# Altium integrated library Lattice ispXPGA.IntLib: 128 symbols (part 31 of 40)
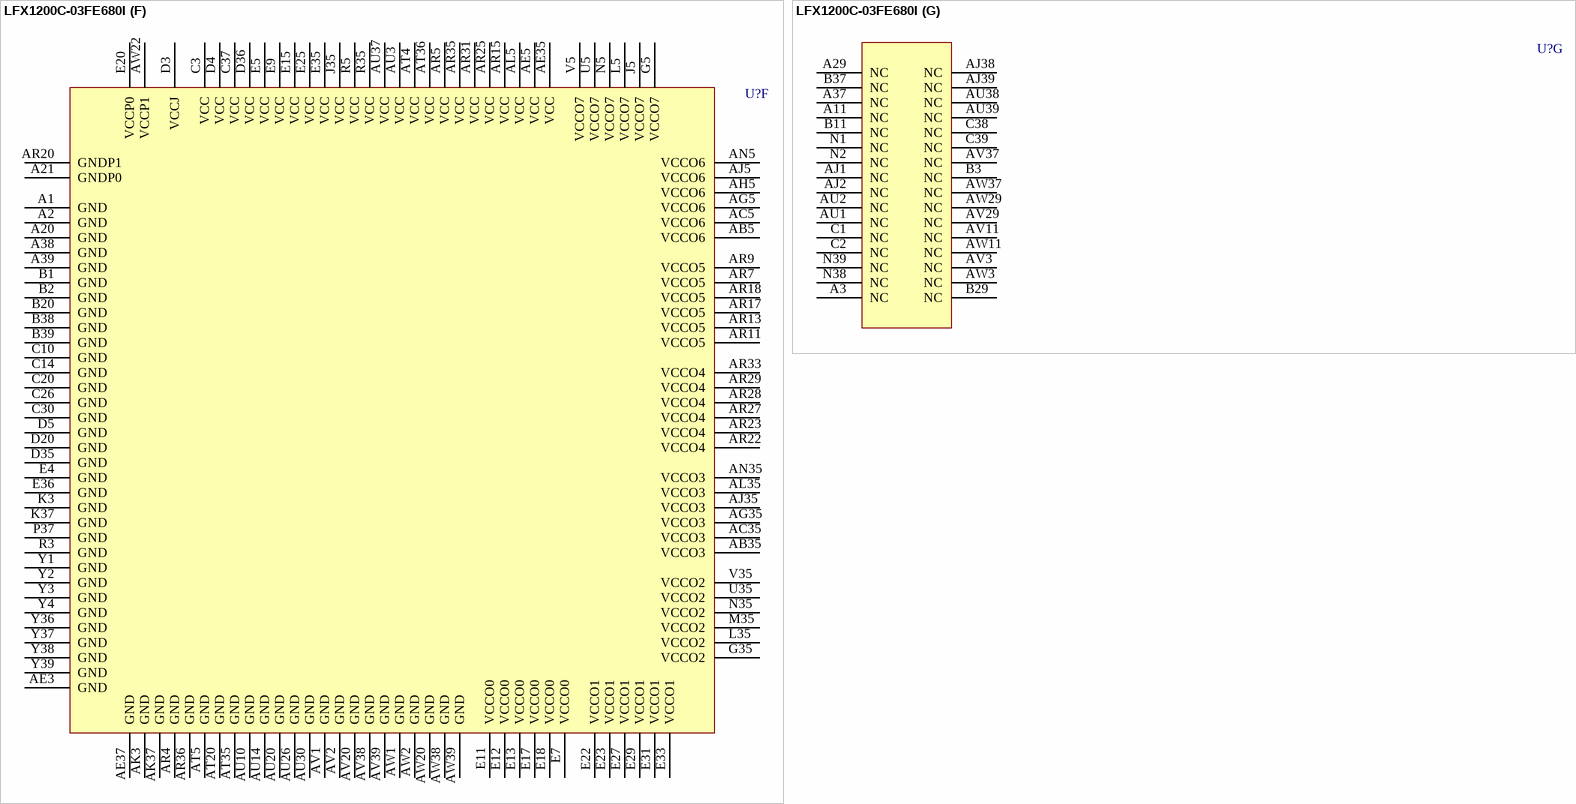
[diagram p429: symbol LFX1200C-03FE680I]

## LFX1200C-03FE680I
designator U?
LFX1200 Non-Volatile Infinitely-Reconfigurable: 1.8V FPGA, 496 User I/Os, 680-Ball fpSBGA, Speed Grade 3, Industrial Grade; Note: All GND pins must be electrically connected at the board level.; DoNotConnect: NC pins to any active signals, VCC or GND.; Published: 17-Dec-2003; LatestRevisionDate: 13-Apr-2006; LatestRevisionNote: IPC-7351 Footprint Added.; DatasheetVersion: xpga_07, Sep-2003; PackageVersion: pkg_32, Aug-2005; PackageReference: fpSBGA680; Publisher: Altium Limited; PackageDescription: 680-Ball Fine Pitch Super Ball Grid Array (fpSBGA680); ComponentLink1Description: Manufacturer Link; ComponentLink1URL: http://www.latticesemi.com/products/fpga/xpga/index.cfm; ComponentLink2Description: Datasheet; ComponentLink2URL: http://www.latticesemi.com/account/_download.cfm?AMID=5010; ComponentLink3Description: Lattice Login; ComponentLink3URL: http://www.latticesemi.com/account/login.cfm
footprint fpSBGA680 (BGA, 680-Leads, Body 40x40mm, Pitch 1mm)
3D model LFX1200-fpSBGA680 (680-Ball Fine Pitch Super Ball Grid Array (fpSBGA680))
part A pins: A4 BK0_IO4/2P (io), A5 BK0_IO9/4N (io), A6 BK0_IO8/4P (io), A7 BK0_IO13/6N (io), A8 BK0_IO20/10P (io), A9 BK0_IO21/10N (io), A10 BK0_IO28/14P (io), A12 BK0_IO32/16P (io), A13 BK0_IO33/16N (io), A14 BK0_IO41/20N (io), A15 BK0_IO44/22P (io), A16 BK0_IO48/24P (io), A17 BK0_IO56/28P (io), A18 BK0_IO54, PLL_RST0/27P (io), A19 BK0_IO58, PLL_FBK0/29P (io), A22 BK1_IO8/35P (io), A23 BK1_IO10/36P (io), A24 BK1_IO13, PLL_RST3/37N (io), A25 BK1_IO14/38P (io), A26 BK1_IO17/39N (io), A27 BK1_IO23/42N (io), A28 BK1_IO24/43P (io), A30 BK1_IO29/45N (io), A31 BK1_IO32/47P (io), A32 BK1_IO40/51P (io), A33 BK1_IO45/53N (io), A34 BK1_IO48/55P (io), A35 BK1_IO49, VREF1/55N (io), A36 BK1_IO56/59P (io), B4 BK0_IO1/0N (io), B5 BK0_IO11, HSI0A_SINN/5N (io), B6 BK0_IO10, HSI0A_SINP/5P (io), B7 BK0_IO12, VREF0/6P (io), B8 BK0_IO23, HSI1A_SOUTN/11N (io), B9 BK0_IO24/12P (io), B10 BK0_IO25/12N (io), B12 BK0_IO35, HSI1B_SINN/17N (io), B13 BK0_IO34, HSI1B_SINP/17P (io), B14 BK0_IO40/20P (io), B15 BK0_IO46, HSI2B_SOUTP/23P (io), B16 BK0_IO47, HSI2B_SOUTN/23N (io), B17 BK0_IO49/24N (io), B18 BK0_IO61, CLK_OUT1/30N (io), B19 BK0_IO59, PLL_FBK1/29N (io), B22 BK1_IO2, SS_CLKOUT0P/32P (io), B23 BK1_IO0, CLK_OUT2/31P (io), B24 BK1_IO6, SS_CLKIN0P/34P (io), B25 BK1_IO11/36N (io), B26 BK1_IO20/41P (io), B27 BK1_IO21/41N (io), B28 BK1_IO28/45P (io), B30 BK1_IO33/47N (io), B31 BK1_IO37/49N (io), B32 BK1_IO44/53P (io), B33 BK1_IO47, HSI4A_SINN/54N (io), B34 BK1_IO54, HSI4B_SINP/58P (io), B35 BK1_IO55, HSI4B_SINN/58N (io), B36 BK1_IO60/61P (io), C4 BK0_IO0/0P (io), C5 BK0_IO6, HSI0A_SOUTP/3P (io), C6 BK0_IO7, HSI0A_SOUTN/3N (io), C7 BK0_IO19, HSI0B_SINN/9N (io), C8 BK0_IO18, HSI0B_SINP/9P (io), C9 BK0_IO22, HSI1A_SOUTP/11P (io), C11 BK0_IO31, HSI1B_SOUTN/15N (io), C12 BK0_IO29/14N (io), C13 BK0_IO38, HSI2A_SOUTP/19P (io), C15 BK0_IO42, HSI2A_SINP/21P (io), C16 BK0_IO45/22N (io), C17 BK0_IO53/26N (io), C18 BK0_IO60, CLK_OUT0/30P (io), C22 BK1_IO3, SS_CLKOUT0N/32N (io), C23 BK1_IO1, CLK_OUT3/31N (io), C24 BK1_IO7, SS_CLKIN0N/34N (io), C25 BK1_IO19/40N (io), C27 BK1_IO26, HSI3A_SOUTP/44P (io), C28 BK1_IO30, HSI3A_SINP/46P (io), C29 BK1_IO36/49P (io), C31 BK1_IO41/51N (io), C32 BK1_IO43, HSI4A_SOUTN/52N (io), C33 BK1_IO46, HSI4A_SINP/54P (io), C34 BK1_IO53/57N (io), C35 BK1_IO58/60P (io), C36 BK1_IO61/61N (io), D6 BK0_IO3/1N (io), D7 BK0_IO15, HSI0B_SOUTN/7N (io), D8 BK0_IO14, HSI0B_SOUTP/7P (io), D9 BK0_IO16/8P (io), D10 BK0_IO27, HSI1A_SINN/13N (io), D11 BK0_IO26, HSI1A_SINP/13P (io), D12 BK0_IO30, HSI1B_SOUTP/15P (io), D13 BK0_IO39, HSI2A_SOUTN/19N (io), D14 BK0_IO37/18N (io), D15 BK0_IO43, HSI2A_SINN/21N (io), D16 BK0_IO50, HSI2B_SINP/25P (io), D17 BK0_IO52/26P (io), D18 BK0_IO55, PLL_RST1/27N (io), D21 BK1_IO4, PLL_FBK2/33P (io), D22 BK1_IO9/35N (io), D23 BK1_IO12, PLL_RST2/37P (io), D24 BK1_IO16/39P (io), D25 BK1_IO18/40P (io), D26 BK1_IO22/42P (io), D27 BK1_IO27, HSI3A_SOUTN/44N (io), D28 BK1_IO31, HSI3A_SINN/46N (io), D29 BK1_IO35, HSI3B_SOUTN/48N (io), D30 BK1_IO38, HSI3B_SINP/50P (io), D31 BK1_IO42, HSI4A_SOUTP/52P (io), D32 BK1_IO50, HSI4B_SOUTP/56P (io), D33 BK1_IO51, HSI4B_SOUTN/56N (io), D34 BK1_IO57/59N (io), E6 BK0_IO2/1P (io), E8 BK0_IO5/2N (io), E10 BK0_IO17/8N (io), E14 BK0_IO36/18P (io), E16 BK0_IO51, HSI2B_SINN/25N (io), E19 BK0_IO57/28N (io), E21 BK1_IO5, PLL_FBK3/33N (io), E24 BK1_IO15/38N (io), E26 BK1_IO25/43N (io), E28 BK1_IO34, HSI3B_SOUTP/48P (io), E30 BK1_IO39, HSI3B_SINN/50N (io), E32 BK1_IO52/57P (io), E34 BK1_IO59/60N (io)
part B pins: AA35 BK3_IO3/94N (io), AA36 BK3_IO6/96P (io), AA37 BK3_IO2/94P (io), AA38 BK3_IO0/93P (io), AA39 BK2_IO61/92N (io), AB36 BK3_IO10/98P (io), AB37 BK3_IO7/96N (io), AB38 BK3_IO5/95N (io), AB39 BK3_IO4/95P (io), AC36 BK3_IO12/99P (io), AC37 BK3_IO11/98N (io), AC38 BK3_IO9/97N (io), AC39 BK3_IO8/97P (io), AD35 BK3_IO16/101P (io), AD36 BK3_IO15/100N (io), AD37 BK3_IO14/100P (io), AD38 BK3_IO18/102P (io), AD39 BK3_IO13/99N (io), AE36 BK3_IO23/104N (io), AE38 BK3_IO17/101N (io), AE39 BK3_IO19/102N (io), AF35 BK3_IO34/110P (io), AF36 BK3_IO24/105P (io), AF37 BK3_IO21/103N (io), AF38 BK3_IO20/103P (io), AF39 BK3_IO22/104P (io), AG36 BK3_IO30/108P (io), AG37 BK3_IO27/106N (io), AG38 BK3_IO25/105N (io), AG39 BK3_IO26/106P (io), AH35 BK3_IO41/113N (io), AH36 BK3_IO36/111P (io), AH37 BK3_IO28/107P (io), AH38 BK3_IO29/107N (io), AH39 BK3_IO31/108N (io), AJ36 BK3_IO40/113P (io), AJ37 BK3_IO35/110N (io), AK35 BK3_IO50/118P (io), AK36 BK3_IO45/115N (io), AK38 BK3_IO33/109N (io), AK39 BK3_IO32/109P (io), AL36 BK3_IO49, VREF3/117N (io), AL37 BK3_IO42/114P (io), AL38 BK3_IO38/112P (io), AL39 BK3_IO39/112N (io), AM35 BK3_IO56/121P (io), AM36 BK3_IO52/119P (io), AM37 BK3_IO46/116P (io), AM38 BK3_IO44/115P (io), AM39 BK3_IO37/111N (io), AN36 BK3_IO55/120N (io), AN37 BK3_IO47/116N (io), AN38 BK3_IO43/114N (io), AN39 BK3_IO48/117P (io), AP36 BK3_IO61/123N (io), AP37 BK3_IO58/122P (io), AP38 BK3_IO53/119N (io), AP39 BK3_IO51/118N (io), AR37 BK3_IO60/123P (io), AR38 BK3_IO57/121N (io), AR39 BK3_IO54/120P (io), AT39 BK3_IO59/122N (io), E37 BK2_IO0/62P (io), E38 BK2_IO5/64N (io), E39 BK2_IO2/63P (io), F35 BK2_IO1/62N (io), F36 BK2_IO4/64P (io), F37 BK2_IO7/65N (io), F38 BK2_IO11/67N (io), F39 BK2_IO3/63N (io), G36 BK2_IO8/66P (io), G37 BK2_IO14/69P (io), G38 BK2_IO6/65P (io), G39 BK2_IO9/66N (io), H35 BK2_IO10/67P (io), H36 BK2_IO13/68N (io), H37 BK2_IO15/69N (io), H38 BK2_IO20/72P (io), H39 BK2_IO16/70P (io), J36 BK2_IO18/71P (io), J37 BK2_IO12, VREF2/68P (io), J38 BK2_IO21/72N (io), J39 BK2_IO22/73P (io), K35 BK2_IO17/70N (io), K36 BK2_IO19/71N (io), K38 BK2_IO24/74P (io), K39 BK2_IO27/75N (io), L36 BK2_IO23/73N (io), L37 BK2_IO26/75P (io), L38 BK2_IO28/76P (io), L39 BK2_IO32/78P (io), M36 BK2_IO25/74N (io), M37 BK2_IO31/77N (io), M38 BK2_IO33/78N (io), M39 BK2_IO34/79P (io), N36 BK2_IO30/77P (io), N37 BK2_IO37/80N (io), P35 BK2_IO29/76N (io), P36 BK2_IO35/79N (io), P38 BK2_IO38/81P (io), P39 BK2_IO42/83P (io), R36 BK2_IO36/80P (io), R37 BK2_IO40/82P (io), R38 BK2_IO41/82N (io), R39 BK2_IO43/83N (io), T35 BK2_IO39/81N (io), T36 BK2_IO45/84N (io), T37 BK2_IO46/85P (io), T38 BK2_IO44/84P (io), T39 BK2_IO49/86N (io), U36 BK2_IO47/85N (io), U37 BK2_IO48/86P (io), U38 BK2_IO51/87N (io), U39 BK2_IO52/88P (io), V36 BK2_IO50/87P (io), V37 BK2_IO54/89P (io), V38 BK2_IO53/88N (io), V39 BK2_IO57/90N (io), W35 BK2_IO56/90P (io), W36 BK2_IO55/89N (io), W37 BK2_IO58/91P (io), W38 BK2_IO59/91N (io), W39 BK2_IO60/92P (io), Y35 BK3_IO1/93N (io)
part C pins: AR6 BK5_IO60/185P (io), AR8 BK5_IO52/181P (io), AR10 BK5_IO41/175N (io), AR12 BK5_IO30, HSI8A_SOUTP/170P (io), AR14 BK5_IO22, HSI7B_SOUTP/166P (io), AR16 BK5_IO19, HSI7B_SINN/164N (io), AR19 BK5_IO4/157P (io), AR21 BK4_IO56, PLL_FBK4/152P (io), AR24 BK4_IO41/144N (io), AR26 BK4_IO37/142N (io), AR30 BK4_IO22, HSI6A_SINP/135P (io), AR32 BK4_IO14, HSI5B_SINP/131P (io), AR34 BK4_IO2/125P (io), AT6 BK5_IO58/184P (io), AT7 BK5_IO53/181N (io), AT8 BK5_IO47, HSI9A_SOUTN/178N (io), AT9 BK5_IO40/175P (io), AT10 BK5_IO38, HSI8B_SOUTP/174P (io), AT11 BK5_IO31, HSI8A_SOUTN/170N (io), AT12 BK5_IO29/169N (io), AT13 BK5_IO24/167P (io), AT14 BK5_IO23, HSI7B_SOUTN/166N (io), AT15 BK5_IO18, HSI7B_SINP/164P (io), AT16 BK5_IO11, HSI7A_SINN/160N (io), AT17 BK5_IO8/159P (io), AT21 BK4_IO60, CLK_OUT4/154P (io), AT22 BK4_IO57, PLL_FBK5/152N (io), AT23 BK4_IO51/149N (io), AT24 BK4_IO45/146N (io), AT25 BK4_IO42/145P (io), AT26 BK4_IO39/143N (io), AT27 BK4_IO33/140N (io), AT28 BK4_IO30, HSI6B_SINP/139P (io), AT29 BK4_IO27, HSI6A_SOUTN/137N (io), AT30 BK4_IO26, HSI6A_SOUTP/137P (io), AT31 BK4_IO23, HSI6A_SINN/135N (io), AT32 BK4_IO15, HSI5B_SINN/131N (io), AT33 BK4_IO10, HSI5A_SOUTP/129P (io), AT34 BK4_IO8/128P (io), AU4 BK5_IO61/185N (io), AU5 BK5_IO54, HSI9B_SOUTP/182P (io), AU6 BK5_IO50, HSI9B_SINP/180P (io), AU7 BK5_IO46, HSI9A_SOUTP/178P (io), AU8 BK5_IO42, HSI9A_SINP/176P (io), AU9 BK5_IO39, HSI8B_SOUTN/174N (io), AU11 BK5_IO33/171N (io), AU12 BK5_IO26, HSI8A_SINP/168P (io), AU13 BK5_IO27, HSI8A_SINN/168N (io), AU15 BK5_IO16/163P (io), AU16 BK5_IO13/161N (io), AU17 BK5_IO10, HSI7A_SINP/160P (io), AU21 BK4_IO61, CLK_OUT5/154N (io), AU22 BK4_IO55, SS_CLKIN1N/151N (io), AU23 BK4_IO50/149P (io), AU24 BK4_IO46/147P (io), AU25 BK4_IO47/147N (io), AU27 BK4_IO34, HSI6B_SOUTP/141P (io), AU28 BK4_IO31, HSI6B_SINN/139N (io), AU29 BK4_IO29/138N (io), AU31 BK4_IO20/134P (io), AU32 BK4_IO16/132P (io), AU33 BK4_IO11, HSI5A_SOUTN/129N (io), AU34 BK4_IO7, HSI5A_SINN/127N (io), AU35 BK4_IO9/128N (io), AU36 BK4_IO0/124P (io), AV4 BK5_IO59/184N (io), AV5 BK5_IO55, HSI9B_SOUTN/182N (io), AV6 BK5_IO51, HSI9B_SINN/180N (io), AV7 BK5_IO48/179P (io), AV8 BK5_IO43, HSI9A_SINN/176N (io), AV9 BK5_IO34, HSI8B_SINP/172P (io), AV10 BK5_IO35, HSI8B_SINN/172N (io), AV12 BK5_IO28/169P (io), AV13 BK5_IO25/167N (io), AV14 BK5_IO14, HSI7A_SOUTP/162P (io), AV15 BK5_IO15, HSI7A_SOUTN/162N (io), AV16 BK5_IO9/159N (io), AV17 BK5_IO0, CLK_OUT6/155P (io), AV18 BK5_IO1, CLK_OUT7/155N (io), AV19 BK5_IO3, PLL_FBK7/156N (io), AV21 BK4_IO59, SS_CLKOUT1N/153N (io), AV22 BK4_IO58, SS_CLKOUT1P/153P (io), AV23 BK4_IO54, SS_CLKIN1P/151P (io), AV24 BK4_IO52/150P (io), AV25 BK4_IO44/146P (io), AV26 BK4_IO40/144P (io), AV27 BK4_IO35, HSI6B_SOUTN/141N (io), AV28 BK4_IO32/140P (io), AV30 BK4_IO25/136N (io), AV31 BK4_IO19, HSI5B_SOUTN/133N (io), AV32 BK4_IO18, HSI5B_SOUTP/133P (io), AV33 BK4_IO13/130N (io), AV34 BK4_IO6, HSI5A_SINP/127P (io), AV35 BK4_IO5/126N (io), AV36 BK4_IO1/124N (io), AW4 BK5_IO57/183N (io), AW5 BK5_IO56/183P (io), AW6 BK5_IO49, VREF5/179N (io), AW7 BK5_IO45/177N (io), AW8 BK5_IO44/177P (io), AW9 BK5_IO37/173N (io), AW10 BK5_IO36/173P (io), AW12 BK5_IO32/171P (io), AW13 BK5_IO21/165N (io), AW14 BK5_IO20/165P (io), AW15 BK5_IO17/163N (io), AW16 BK5_IO12/161P (io), AW17 BK5_IO7, PLL_RST7/158N (io), AW18 BK5_IO6, PLL_RST6/158P (io), AW19 BK5_IO5/157N (io), AW21 BK5_IO2, PLL_FBK6/156P (io), AW23 BK4_IO53/150N (io), AW24 BK4_IO49, PLL_RST5/148N (io), AW25 BK4_IO48, PLL_RST4/148P (io), AW26 BK4_IO43/145N (io), AW27 BK4_IO38/143P (io), AW28 BK4_IO36/142P (io), AW30 BK4_IO28/138P (io), AW31 BK4_IO24/136P (io), AW32 BK4_IO21/134N (io), AW33 BK4_IO17/132N (io), AW34 BK4_IO12, VREF4/130P (io), AW35 BK4_IO4/126P (io), AW36 BK4_IO3/125N (io)
part D pins: AA1 BK6_IO60/216P (io), AA2 BK6_IO59/215N (io), AA3 BK6_IO56/214P (io), AA4 BK6_IO57/214N (io), AA5 BK6_IO58/215P (io), AB1 BK6_IO55, DATA0/213N (io), AB2 BK6_IO54, DATA1/213P (io), AB3 BK6_IO52/212P (io), AB4 BK6_IO53/212N (io), AC1 BK6_IO51, DATA2/211N (io), AC2 BK6_IO50, DATA3/211P (io), AC3 BK6_IO49/210N (io), AC4 BK6_IO48/210P (io), AD1 BK6_IO47/209N (io), AD2 BK6_IO46/209P (io), AD3 BK6_IO45/208N (io), AD4 BK6_IO43/207N (io), AD5 BK6_IO44/208P (io), AE1 BK6_IO41/206N (io), AE2 BK6_IO38/205P (io), AE4 BK6_IO42/207P (io), AF1 BK6_IO39/205N (io), AF2 BK6_IO40/206P (io), AF3 BK6_IO36, DATA5/204P (io), AF4 BK6_IO35/203N (io), AF5 BK6_IO32, DATA7/202P (io), AG1 BK6_IO37, DATA4/204N (io), AG2 BK6_IO34/203P (io), AG3 BK6_IO33, DATA6/202N (io), AG4 BK6_IO31/201N (io), AH1 BK6_IO30/201P (io), AH2 BK6_IO29/200N (io), AH3 BK6_IO28/200P (io), AH4 BK6_IO27/199N (io), AJ3 BK6_IO26/199P (io), AJ4 BK6_IO25/198N (io), AK1 BK6_IO24/198P (io), AK2 BK6_IO23/197N (io), AK4 BK6_IO19/195N (io), AK5 BK6_IO17/194N (io), AL1 BK6_IO22/197P (io), AL2 BK6_IO21/196N (io), AL3 BK6_IO20/196P (io), AL4 BK6_IO16/194P (io), AM1 BK6_IO18/195P (io), AM2 BK6_IO15/193N (io), AM3 BK6_IO13/192N (io), AM4 BK6_IO12, VREF6/192P (io), AM5 BK6_IO9/190N (io), AN1 BK6_IO14/193P (io), AN2 BK6_IO11/191N (io), AN3 BK6_IO10/191P (io), AN4 BK6_IO8/190P (io), AP1 BK6_IO7/189N (io), AP2 BK6_IO6/189P (io), AP3 BK6_IO4, CSb/188P (io), AP4 BK6_IO0, INITb/186P (io), AP5 BK6_IO1, CCLK/186N (io), AR1 BK6_IO5, Read/188N (io), AR2 BK6_IO3/187N (io), AR3 BK6_IO2/187P (io), E1 BK7_IO57/245N (io), E2 BK7_IO59/246N (io), E3 BK7_IO61/247N (io), F1 BK7_IO55/244N (io), F2 BK7_IO51/242N (io), F3 BK7_IO54/244P (io), F4 BK7_IO58/246P (io), F5 BK7_IO60/247P (io), G1 BK7_IO45/239N (io), G2 BK7_IO52/243P (io), G3 BK7_IO49/241N (io), G4 BK7_IO56/245P (io), H1 BK7_IO39/236N (io), H2 BK7_IO43/238N (io), H3 BK7_IO46/240P (io), H4 BK7_IO50/242P (io), H5 BK7_IO53/243N (io), J1 BK7_IO36/235P (io), J2 BK7_IO37/235N (io), J3 BK7_IO40/237P (io), J4 BK7_IO47, VREF7/240N (io), K1 BK7_IO32/233P (io), K2 BK7_IO33/233N (io), K4 BK7_IO44/239P (io), K5 BK7_IO48/241P (io), L1 BK7_IO28/231P (io), L2 BK7_IO30/232P (io), L3 BK7_IO35/234N (io), L4 BK7_IO41/237N (io), M1 BK7_IO24/229P (io), M2 BK7_IO25/229N (io), M3 BK7_IO29/231N (io), M4 BK7_IO38/236P (io), M5 BK7_IO42/238P (io), N3 BK7_IO26/230P (io), N4 BK7_IO31/232N (io), P1 BK7_IO19/226N (io), P2 BK7_IO20/227P (io), P3 BK7_IO21/227N (io), P4 BK7_IO27/230N (io), P5 BK7_IO34/234P (io), R1 BK7_IO16/225P (io), R2 BK7_IO17/225N (io), R4 BK7_IO22/228P (io), T1 BK7_IO13/223N (io), T2 BK7_IO14/224P (io), T3 BK7_IO15/224N (io), T4 BK7_IO18/226P (io), T5 BK7_IO23/228N (io), U1 BK7_IO9/221N (io), U2 BK7_IO10/222P (io), U3 BK7_IO11/222N (io), U4 BK7_IO12/223P (io), V1 BK7_IO4/219P (io), V2 BK7_IO5/219N (io), V3 BK7_IO6/220P (io), V4 BK7_IO7/220N (io), W1 BK7_IO1/217N (io), W2 BK7_IO2/218P (io), W3 BK7_IO0/217P (io), W4 BK7_IO3/218N (io), W5 BK7_IO8/221P (io), Y5 BK6_IO61/216N (io)
part E pins: AP35 DXP (out), AT1 CFG0 (in), AT2 PROGRAMb (in), AT3 DONE (io), AT18 GCLK7/LVDS Pair3N (in), AT19 GCLK4/LVDS Pair2P (in), AT37 DXN (out), AT38 GSR (in), AU18 GCLK6/LVDS Pair3P (in), AU19 GCLK5/LVDS Pair2N (in), B21 GCLK2/LVDS Pair1P (in), C19 GCLK1/LVDS Pair0N (in), C21 GCLK3/LVDS Pair1N (in), D1 TDI (in), D2 TDO (out), D19 GCLK0/LVDS Pair0P (in), D37 TMS (in), D38 TOE (in), D39 TCK (in)
part F pins: A1 GND (power), A2 GND (power), A20 GND (power), A21 GNDP0 (power), A38 GND (power), A39 GND (power), AB5 VCCO6 (power), AB35 VCCO3 (power), AC5 VCCO6 (power), AC35 VCCO3 (power), AE3 GND (power), AE5 VCC (power), AE35 VCC (power), AE37 GND (power), AG5 VCCO6 (power), AG35 VCCO3 (power), AH5 VCCO6 (power), AJ5 VCCO6 (power), AJ35 VCCO3 (power), AK3 GND (power), AK37 GND (power), AL5 VCC (power), AL35 VCCO3 (power), AN5 VCCO6 (power), AN35 VCCO3 (power), AR4 GND (power), AR5 VCC (power), AR7 VCCO5 (power), AR9 VCCO5 (power), AR11 VCCO5 (power), AR13 VCCO5 (power), AR15 VCC (power), AR17 VCCO5 (power), AR18 VCCO5 (power), AR20 GNDP1 (power), AR22 VCCO4 (power), AR23 VCCO4 (power), AR25 VCC (power), AR27 VCCO4 (power), AR28 VCCO4 (power), AR29 VCCO4 (power), AR31 VCC (power), AR33 VCCO4 (power), AR35 VCC (power), AR36 GND (power), AT4 VCC (power), AT5 GND (power), AT20 GND (power), AT35 GND (power), AT36 VCC (power), AU3 VCC (power), AU10 GND (power), AU14 GND (power), AU20 GND (power), AU26 GND (power), AU30 GND (power), AU37 VCC (power), AV1 GND (power), AV2 GND (power), AV20 GND (power), AV38 GND (power), AV39 GND (power), AW1 GND (power), AW2 GND (power), AW20 GND (power), AW22 VCCP1 (power), AW38 GND (power), AW39 GND (power), B1 GND (power), B2 GND (power), B20 GND (power), B38 GND (power), B39 GND (power), C3 VCC (power), C10 GND (power), C14 GND (power), C20 GND (power), C26 GND (power), C30 GND (power), C37 VCC (power), D3 VCCJ (power), D4 VCC (power), D5 GND (power), D20 GND (power), D35 GND (power), D36 VCC (power), E4 GND (power), E5 VCC (power), E7 VCCO0 (power), E9 VCC (power), E11 VCCO0 (power), E12 VCCO0 (power), E13 VCCO0 (power), E15 VCC (power), E17 VCCO0 (power), E18 VCCO0 (power), E20 VCCP0 (power), E22 VCCO1 (power), E23 VCCO1 (power), E25 VCC (power), E27 VCCO1 (power), E29 VCCO1 (power), E31 VCCO1 (power), E33 VCCO1 (power), E35 VCC (power), E36 GND (power), G5 VCCO7 (power), G35 VCCO2 (power), J5 VCCO7 (power), J35 VCC (power), K3 GND (power), K37 GND (power), L5 VCCO7 (power), L35 VCCO2 (power), M35 VCCO2 (power), N5 VCCO7 (power), N35 VCCO2 (power), P37 GND (power), R3 GND (power), R5 VCC (power), R35 VCC (power), U5 VCCO7 (power), U35 VCCO2 (power), V5 VCCO7 (power), V35 VCCO2 (power), Y1 GND (power), Y2 GND (power), Y3 GND (power), Y4 GND (power), Y36 GND (power), Y37 GND (power), Y38 GND (power), Y39 GND (power)
part G pins: A3 NC, A11 NC, A29 NC, A37 NC, AJ1 NC, AJ2 NC, AJ38 NC, AJ39 NC, AU1 NC, AU2 NC, AU38 NC, AU39 NC, AV3 NC, AV11 NC, AV29 NC, AV37 NC, AW3 NC, AW11 NC, AW29 NC, AW37 NC, B3 NC, B11 NC, B29 NC, B37 NC, C1 NC, C2 NC, C38 NC, C39 NC, N1 NC, N2 NC, N38 NC, N39 NC
part A text: BANK 1; BANK 0
part B text: BANK 3; BANK 2
part C text: BANK 5; BANK 4
part D text: BANK 7; BANK 6

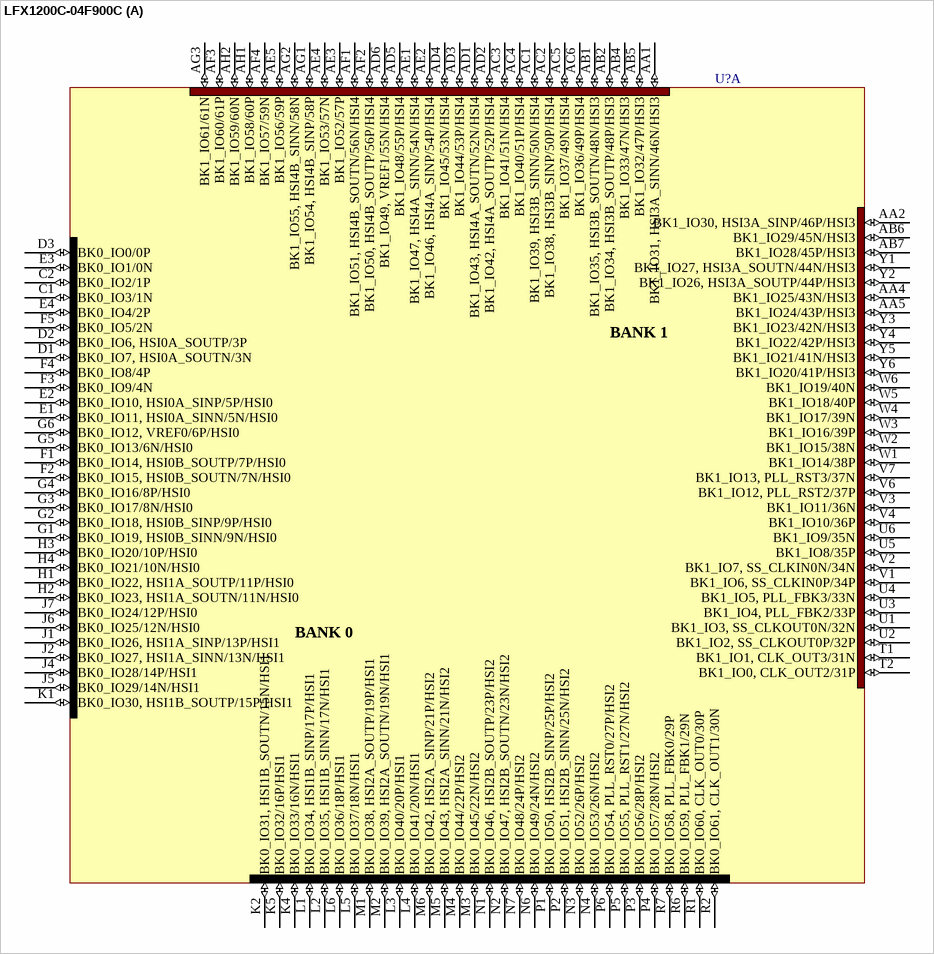
[diagram p327: symbol LFX1200C-04F900C]

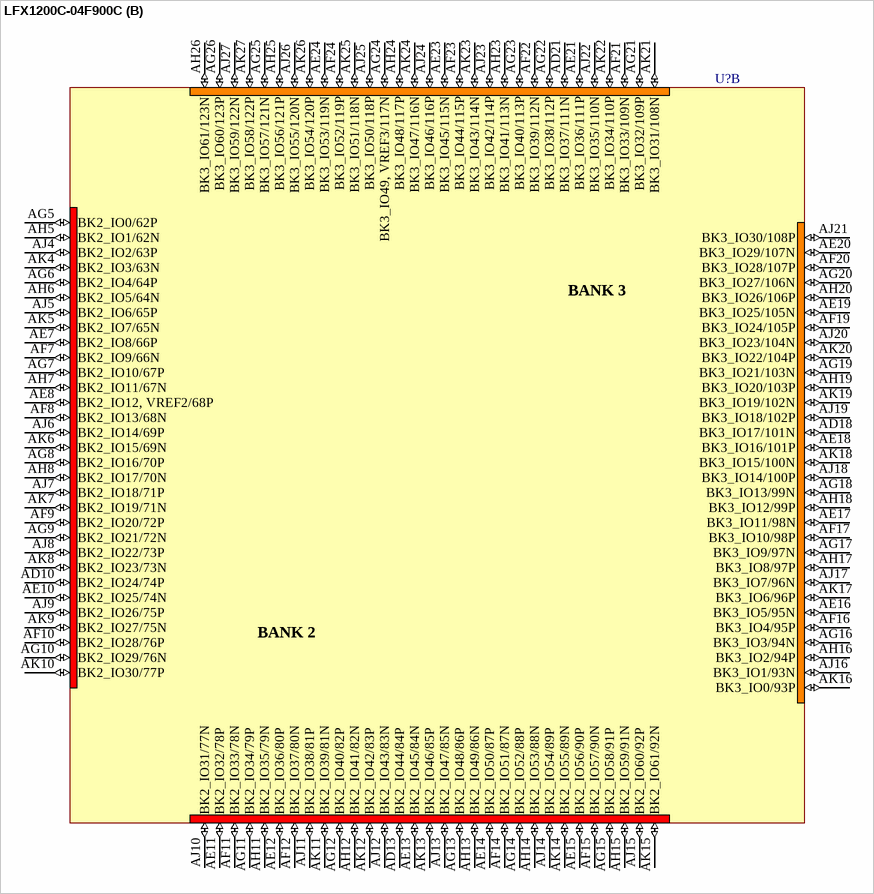
[diagram p328: symbol LFX1200C-04F900C]

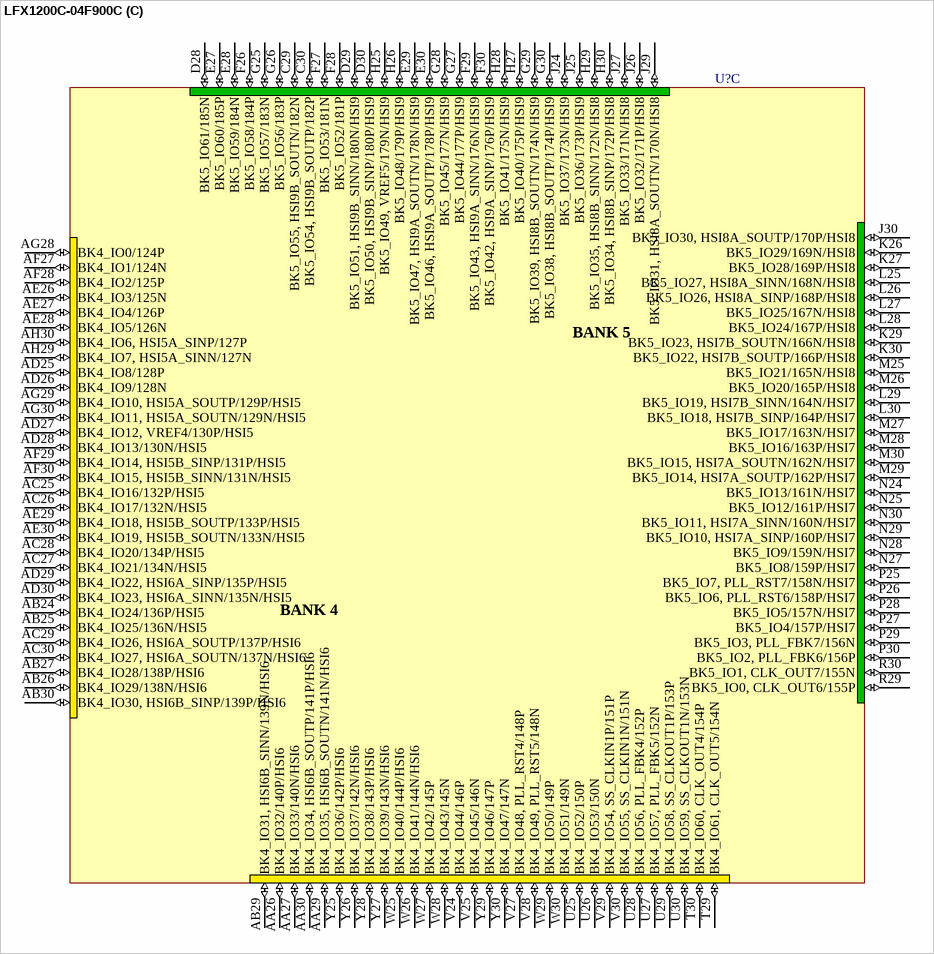
[diagram p329: symbol LFX1200C-04F900C]

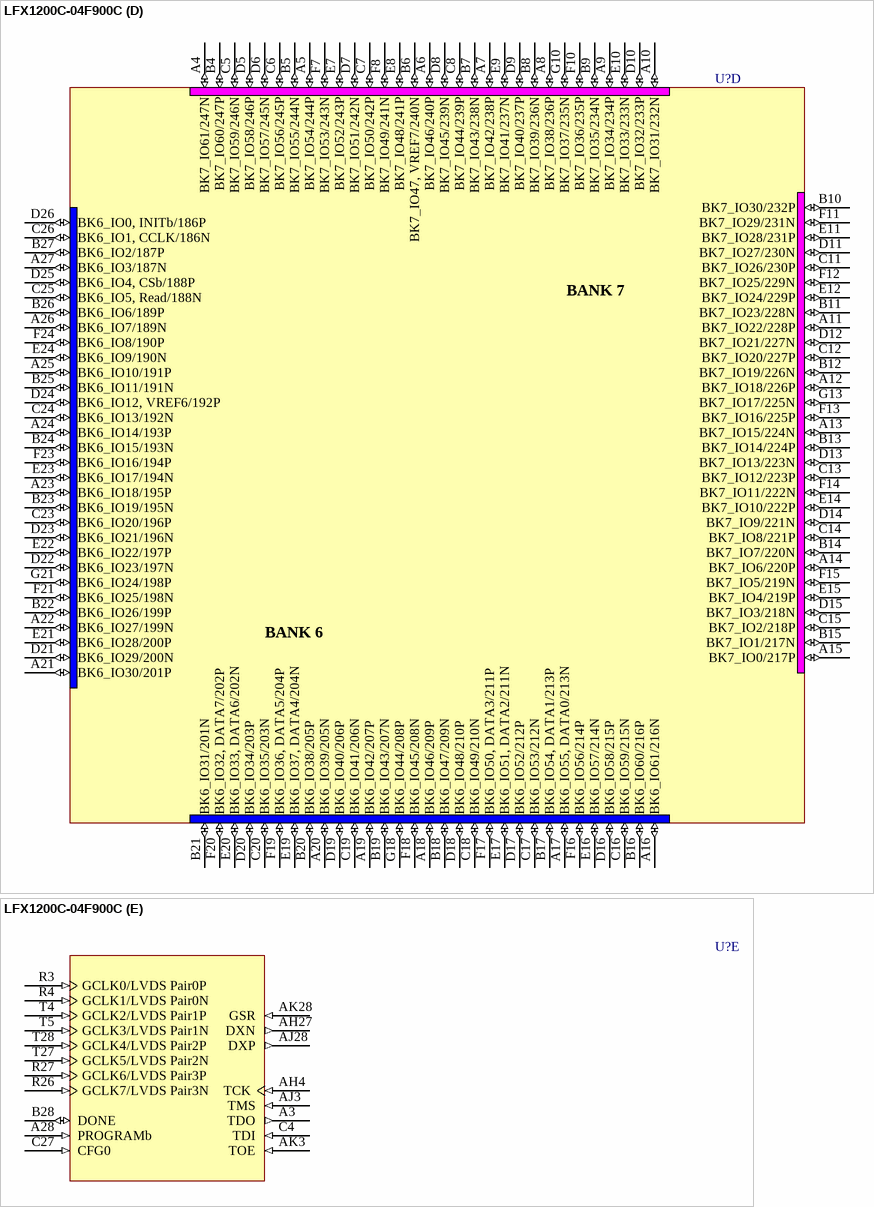
[diagram p330: symbol LFX1200C-04F900C]

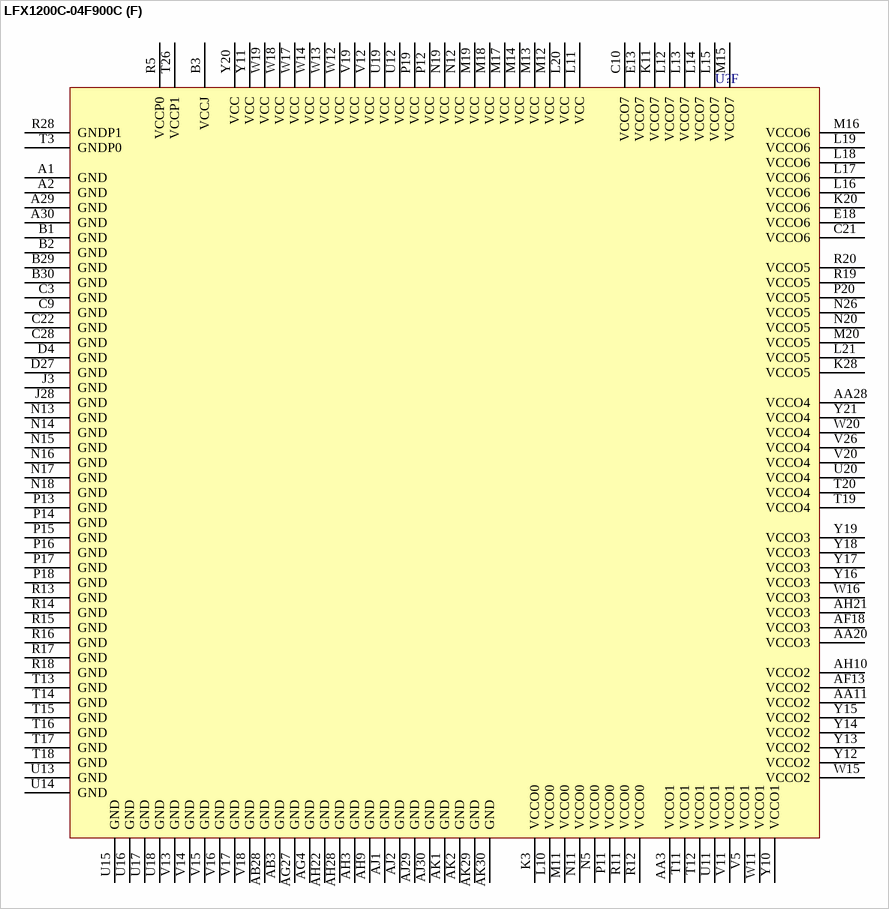
[diagram p331: symbol LFX1200C-04F900C]

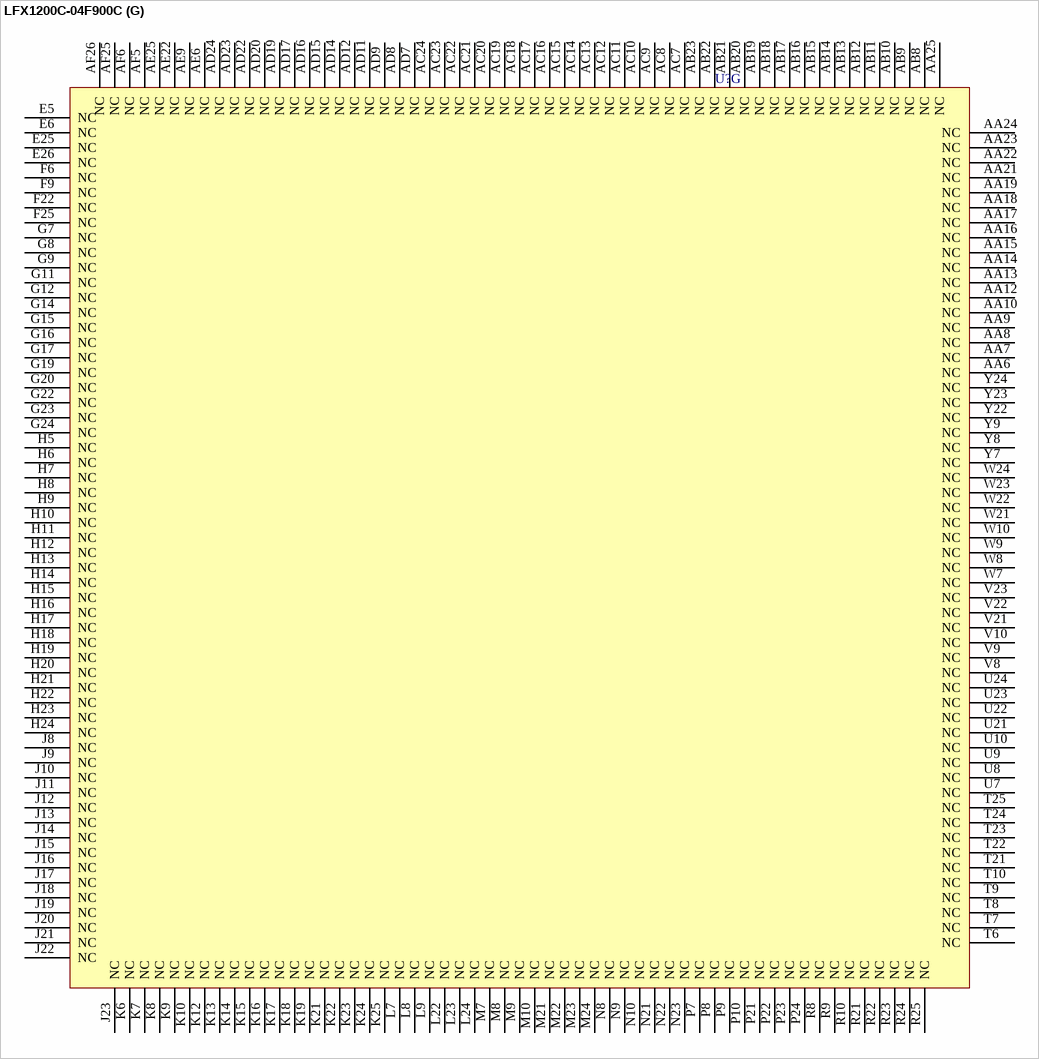
[diagram p332: symbol LFX1200C-04F900C]

## LFX1200C-04F900C
designator U?
LFX1200 Non-Volatile Infinitely-Reconfigurable: 1.8V FPGA, 496 User I/Os, 900-Ball fpBGA, Speed Grade 4, Commercial Grade; Note: All GND pins must be electrically connected at the board level.; DoNotConnect: NC pins to any active signals, VCC or GND.; Published: 17-Dec-2003; LatestRevisionDate: 13-Apr-2006; LatestRevisionNote: IPC-7351 Footprint Added.; DatasheetVersion: xpga_09, Jul-2004; PackageVersion: pkg_32, Aug-2005; PackageReference: fpBGA900; Publisher: Altium Limited; PackageDescription: 900-Ball Fine Pitch Ball Grid Array (fpBGA900); Code_IPC: BGA100P30X30-900; ComponentLink1Description: Manufacturer Link; ComponentLink1URL: http://www.latticesemi.com/products/fpga/xpga/index.cfm; ComponentLink2Description: Datasheet; ComponentLink2URL: http://www.latticesemi.com/account/_download.cfm?AMID=5010; ComponentLink3Description: Lattice Login; ComponentLink3URL: http://www.latticesemi.com/account/login.cfm
footprint fpBGA900 (BGA, 900-Leads, Body 31x31mm, Pitch 1mm)
3D model LFX1200-fpBGA900 (900-Ball Fine Pitch Ball Grid Array (fpBGA900))
part A pins: AA1 BK1_IO31, HSI3A_SINN/46N/HSI3 (io), AA2 BK1_IO30, HSI3A_SINP/46P/HSI3 (io), AA4 BK1_IO25/43N/HSI3 (io), AA5 BK1_IO24/43P/HSI3 (io), AB1 BK1_IO35, HSI3B_SOUTN/48N/HSI3 (io), AB2 BK1_IO34, HSI3B_SOUTP/48P/HSI3 (io), AB4 BK1_IO33/47N/HSI3 (io), AB5 BK1_IO32/47P/HSI3 (io), AB6 BK1_IO29/45N/HSI3 (io), AB7 BK1_IO28/45P/HSI3 (io), AC1 BK1_IO39, HSI3B_SINN/50N/HSI4 (io), AC2 BK1_IO38, HSI3B_SINP/50P/HSI4 (io), AC3 BK1_IO41/51N/HSI4 (io), AC4 BK1_IO40/51P/HSI4 (io), AC5 BK1_IO37/49N/HSI4 (io), AC6 BK1_IO36/49P/HSI4 (io), AD1 BK1_IO43, HSI4A_SOUTN/52N/HSI4 (io), AD2 BK1_IO42, HSI4A_SOUTP/52P/HSI4 (io), AD3 BK1_IO44/53P/HSI4 (io), AD4 BK1_IO45/53N/HSI4 (io), AD5 BK1_IO48/55P/HSI4 (io), AD6 BK1_IO49, VREF1/55N/HSI4 (io), AE1 BK1_IO47, HSI4A_SINN/54N/HSI4 (io), AE2 BK1_IO46, HSI4A_SINP/54P/HSI4 (io), AE3 BK1_IO52/57P (io), AE4 BK1_IO53/57N (io), AE5 BK1_IO56/59P (io), AF1 BK1_IO51, HSI4B_SOUTN/56N/HSI4 (io), AF2 BK1_IO50, HSI4B_SOUTP/56P/HSI4 (io), AF3 BK1_IO60/61P (io), AF4 BK1_IO57/59N (io), AG1 BK1_IO54, HSI4B_SINP/58P (io), AG2 BK1_IO55, HSI4B_SINN/58N (io), AG3 BK1_IO61/61N (io), AH1 BK1_IO58/60P (io), AH2 BK1_IO59/60N (io), C1 BK0_IO3/1N (io), C2 BK0_IO2/1P (io), D1 BK0_IO7, HSI0A_SOUTN/3N (io), D2 BK0_IO6, HSI0A_SOUTP/3P (io), D3 BK0_IO0/0P (io), E1 BK0_IO11, HSI0A_SINN/5N/HSI0 (io), E2 BK0_IO10, HSI0A_SINP/5P/HSI0 (io), E3 BK0_IO1/0N (io), E4 BK0_IO4/2P (io), F1 BK0_IO14, HSI0B_SOUTP/7P/HSI0 (io), F2 BK0_IO15, HSI0B_SOUTN/7N/HSI0 (io), F3 BK0_IO9/4N (io), F4 BK0_IO8/4P (io), F5 BK0_IO5/2N (io), G1 BK0_IO19, HSI0B_SINN/9N/HSI0 (io), G2 BK0_IO18, HSI0B_SINP/9P/HSI0 (io), G3 BK0_IO17/8N/HSI0 (io), G4 BK0_IO16/8P/HSI0 (io), G5 BK0_IO13/6N/HSI0 (io), G6 BK0_IO12, VREF0/6P/HSI0 (io), H1 BK0_IO22, HSI1A_SOUTP/11P/HSI0 (io), H2 BK0_IO23, HSI1A_SOUTN/11N/HSI0 (io), H3 BK0_IO20/10P/HSI0 (io), H4 BK0_IO21/10N/HSI0 (io), J1 BK0_IO26, HSI1A_SINP/13P/HSI1 (io), J2 BK0_IO27, HSI1A_SINN/13N/HSI1 (io), J4 BK0_IO28/14P/HSI1 (io), J5 BK0_IO29/14N/HSI1 (io), J6 BK0_IO25/12N/HSI0 (io), J7 BK0_IO24/12P/HSI0 (io), K1 BK0_IO30, HSI1B_SOUTP/15P/HSI1 (io), K2 BK0_IO31, HSI1B_SOUTN/15N/HSI1 (io), K4 BK0_IO33/16N/HSI1 (io), K5 BK0_IO32/16P/HSI1 (io), L1 BK0_IO34, HSI1B_SINP/17P/HSI1 (io), L2 BK0_IO35, HSI1B_SINN/17N/HSI1 (io), L3 BK0_IO40/20P/HSI1 (io), L4 BK0_IO41/20N/HSI1 (io), L5 BK0_IO37/18N/HSI1 (io), L6 BK0_IO36/18P/HSI1 (io), M1 BK0_IO38, HSI2A_SOUTP/19P/HSI1 (io), M2 BK0_IO39, HSI2A_SOUTN/19N/HSI1 (io), M3 BK0_IO45/22N/HSI2 (io), M4 BK0_IO44/22P/HSI2 (io), M5 BK0_IO43, HSI2A_SINN/21N/HSI2 (io), M6 BK0_IO42, HSI2A_SINP/21P/HSI2 (io), N1 BK0_IO46, HSI2B_SOUTP/23P/HSI2 (io), N2 BK0_IO47, HSI2B_SOUTN/23N/HSI2 (io), N3 BK0_IO52/26P/HSI2 (io), N4 BK0_IO53/26N/HSI2 (io), N6 BK0_IO49/24N/HSI2 (io), N7 BK0_IO48/24P/HSI2 (io), P1 BK0_IO50, HSI2B_SINP/25P/HSI2 (io), P2 BK0_IO51, HSI2B_SINN/25N/HSI2 (io), P3 BK0_IO56/28P/HSI2 (io), P4 BK0_IO57/28N/HSI2 (io), P5 BK0_IO55, PLL_RST1/27N/HSI2 (io), P6 BK0_IO54, PLL_RST0/27P/HSI2 (io), R1 BK0_IO60, CLK_OUT0/30P (io), R2 BK0_IO61, CLK_OUT1/30N (io), R6 BK0_IO59, PLL_FBK1/29N (io), R7 BK0_IO58, PLL_FBK0/29P (io), T1 BK1_IO1, CLK_OUT3/31N (io), T2 BK1_IO0, CLK_OUT2/31P (io), U1 BK1_IO3, SS_CLKOUT0N/32N (io), U2 BK1_IO2, SS_CLKOUT0P/32P (io), U3 BK1_IO4, PLL_FBK2/33P (io), U4 BK1_IO5, PLL_FBK3/33N (io), U5 BK1_IO8/35P (io), U6 BK1_IO9/35N (io), V1 BK1_IO6, SS_CLKIN0P/34P (io), V2 BK1_IO7, SS_CLKIN0N/34N (io), V3 BK1_IO11/36N (io), V4 BK1_IO10/36P (io), V6 BK1_IO12, PLL_RST2/37P (io), V7 BK1_IO13, PLL_RST3/37N (io), W1 BK1_IO14/38P (io), W2 BK1_IO15/38N (io), W3 BK1_IO16/39P (io), W4 BK1_IO17/39N (io), W5 BK1_IO18/40P (io), W6 BK1_IO19/40N (io), Y1 BK1_IO27, HSI3A_SOUTN/44N/HSI3 (io), Y2 BK1_IO26, HSI3A_SOUTP/44P/HSI3 (io), Y3 BK1_IO23/42N/HSI3 (io), Y4 BK1_IO22/42P/HSI3 (io), Y5 BK1_IO21/41N/HSI3 (io), Y6 BK1_IO20/41P/HSI3 (io)
part B pins: AD10 BK2_IO24/74P (io), AD13 BK2_IO44/84P (io), AD18 BK3_IO17/101N (io), AD21 BK3_IO37/111N (io), AE7 BK2_IO8/66P (io), AE8 BK2_IO12, VREF2/68P (io), AE10 BK2_IO25/74N (io), AE11 BK2_IO32/78P (io), AE12 BK2_IO36/80P (io), AE13 BK2_IO45/84N (io), AE14 BK2_IO50/87P (io), AE15 BK2_IO56/90P (io), AE16 BK3_IO5/95N (io), AE17 BK3_IO11/98N (io), AE18 BK3_IO16/101P (io), AE19 BK3_IO25/105N (io), AE20 BK3_IO29/107N (io), AE21 BK3_IO36/111P (io), AE23 BK3_IO45/115N (io), AE24 BK3_IO53/119N (io), AF7 BK2_IO9/66N (io), AF8 BK2_IO13/68N (io), AF9 BK2_IO20/72P (io), AF10 BK2_IO28/76P (io), AF11 BK2_IO33/78N (io), AF12 BK2_IO37/80N (io), AF14 BK2_IO51/87N (io), AF15 BK2_IO57/90N (io), AF16 BK3_IO4/95P (io), AF17 BK3_IO10/98P (io), AF19 BK3_IO24/105P (io), AF20 BK3_IO28/107P (io), AF21 BK3_IO33/109N (io), AF22 BK3_IO39/112N (io), AF23 BK3_IO44/115P (io), AF24 BK3_IO52/119P (io), AG5 BK2_IO0/62P (io), AG6 BK2_IO4/64P (io), AG7 BK2_IO10/67P (io), AG8 BK2_IO16/70P (io), AG9 BK2_IO21/72N (io), AG10 BK2_IO29/76N (io), AG11 BK2_IO34/79P (io), AG12 BK2_IO40/82P (io), AG13 BK2_IO48/86P (io), AG14 BK2_IO52/88P (io), AG15 BK2_IO58/91P (io), AG16 BK3_IO3/94N (io), AG17 BK3_IO9/97N (io), AG18 BK3_IO13/99N (io), AG19 BK3_IO21/103N (io), AG20 BK3_IO27/106N (io), AG21 BK3_IO32/109P (io), AG22 BK3_IO38/112P (io), AG23 BK3_IO40/113P (io), AG24 BK3_IO49, VREF3/117N (io), AG25 BK3_IO57/121N (io), AG26 BK3_IO60/123P (io), AH5 BK2_IO1/62N (io), AH6 BK2_IO5/64N (io), AH7 BK2_IO11/67N (io), AH8 BK2_IO17/70N (io), AH11 BK2_IO35/79N (io), AH12 BK2_IO41/82N (io), AH13 BK2_IO49/86N (io), AH14 BK2_IO53/88N (io), AH15 BK2_IO59/91N (io), AH16 BK3_IO2/94P (io), AH17 BK3_IO8/97P (io), AH18 BK3_IO12/99P (io), AH19 BK3_IO20/103P (io), AH20 BK3_IO26/106P (io), AH23 BK3_IO41/113N (io), AH24 BK3_IO48/117P (io), AH25 BK3_IO56/121P (io), AH26 BK3_IO61/123N (io), AJ4 BK2_IO2/63P (io), AJ5 BK2_IO6/65P (io), AJ6 BK2_IO14/69P (io), AJ7 BK2_IO18/71P (io), AJ8 BK2_IO22/73P (io), AJ9 BK2_IO26/75P (io), AJ10 BK2_IO31/77N (io), AJ11 BK2_IO38/81P (io), AJ12 BK2_IO43/83N (io), AJ13 BK2_IO47/85N (io), AJ14 BK2_IO54/89P (io), AJ15 BK2_IO60/92P (io), AJ16 BK3_IO1/93N (io), AJ17 BK3_IO7/96N (io), AJ18 BK3_IO14/100P (io), AJ19 BK3_IO18/102P (io), AJ20 BK3_IO23/104N (io), AJ21 BK3_IO30/108P (io), AJ22 BK3_IO35/110N (io), AJ23 BK3_IO42/114P (io), AJ24 BK3_IO46/116P (io), AJ25 BK3_IO50/118P (io), AJ26 BK3_IO55/120N (io), AJ27 BK3_IO59/122N (io), AK4 BK2_IO3/63N (io), AK5 BK2_IO7/65N (io), AK6 BK2_IO15/69N (io), AK7 BK2_IO19/71N (io), AK8 BK2_IO23/73N (io), AK9 BK2_IO27/75N (io), AK10 BK2_IO30/77P (io), AK11 BK2_IO39/81N (io), AK12 BK2_IO42/83P (io), AK13 BK2_IO46/85P (io), AK14 BK2_IO55/89N (io), AK15 BK2_IO61/92N (io), AK16 BK3_IO0/93P (io), AK17 BK3_IO6/96P (io), AK18 BK3_IO15/100N (io), AK19 BK3_IO19/102N (io), AK20 BK3_IO22/104P (io), AK21 BK3_IO31/108N (io), AK22 BK3_IO34/110P (io), AK23 BK3_IO43/114N (io), AK24 BK3_IO47/116N (io), AK25 BK3_IO51/118N (io), AK26 BK3_IO54/120P (io), AK27 BK3_IO58/122P (io)
part C pins: AA26 BK4_IO32/140P/HSI6 (io), AA27 BK4_IO33/140N/HSI6 (io), AA29 BK4_IO35, HSI6B_SOUTN/141N/HSI6 (io), AA30 BK4_IO34, HSI6B_SOUTP/141P/HSI6 (io), AB24 BK4_IO24/136P/HSI5 (io), AB25 BK4_IO25/136N/HSI5 (io), AB26 BK4_IO29/138N/HSI6 (io), AB27 BK4_IO28/138P/HSI6 (io), AB29 BK4_IO31, HSI6B_SINN/139N/HSI6 (io), AB30 BK4_IO30, HSI6B_SINP/139P/HSI6 (io), AC25 BK4_IO16/132P/HSI5 (io), AC26 BK4_IO17/132N/HSI5 (io), AC27 BK4_IO21/134N/HSI5 (io), AC28 BK4_IO20/134P/HSI5 (io), AC29 BK4_IO26, HSI6A_SOUTP/137P/HSI6 (io), AC30 BK4_IO27, HSI6A_SOUTN/137N/HSI6 (io), AD25 BK4_IO8/128P (io), AD26 BK4_IO9/128N (io), AD27 BK4_IO12, VREF4/130P/HSI5 (io), AD28 BK4_IO13/130N/HSI5 (io), AD29 BK4_IO22, HSI6A_SINP/135P/HSI5 (io), AD30 BK4_IO23, HSI6A_SINN/135N/HSI5 (io), AE26 BK4_IO3/125N (io), AE27 BK4_IO4/126P (io), AE28 BK4_IO5/126N (io), AE29 BK4_IO18, HSI5B_SOUTP/133P/HSI5 (io), AE30 BK4_IO19, HSI5B_SOUTN/133N/HSI5 (io), AF27 BK4_IO1/124N (io), AF28 BK4_IO2/125P (io), AF29 BK4_IO14, HSI5B_SINP/131P/HSI5 (io), AF30 BK4_IO15, HSI5B_SINN/131N/HSI5 (io), AG28 BK4_IO0/124P (io), AG29 BK4_IO10, HSI5A_SOUTP/129P/HSI5 (io), AG30 BK4_IO11, HSI5A_SOUTN/129N/HSI5 (io), AH29 BK4_IO7, HSI5A_SINN/127N (io), AH30 BK4_IO6, HSI5A_SINP/127P (io), C29 BK5_IO55, HSI9B_SOUTN/182N (io), C30 BK5_IO54, HSI9B_SOUTP/182P (io), D28 BK5_IO61/185N (io), D29 BK5_IO51, HSI9B_SINN/180N/HSI9 (io), D30 BK5_IO50, HSI9B_SINP/180P/HSI9 (io), E27 BK5_IO60/185P (io), E28 BK5_IO59/184N (io), E29 BK5_IO47, HSI9A_SOUTN/178N/HSI9 (io), E30 BK5_IO46, HSI9A_SOUTP/178P/HSI9 (io), F26 BK5_IO58/184P (io), F27 BK5_IO53/181N (io), F28 BK5_IO52/181P (io), F29 BK5_IO43, HSI9A_SINN/176N/HSI9 (io), F30 BK5_IO42, HSI9A_SINP/176P/HSI9 (io), G25 BK5_IO57/183N (io), G26 BK5_IO56/183P (io), G27 BK5_IO44/177P/HSI9 (io), G28 BK5_IO45/177N/HSI9 (io), G29 BK5_IO39, HSI8B_SOUTN/174N/HSI9 (io), G30 BK5_IO38, HSI8B_SOUTP/174P/HSI9 (io), H25 BK5_IO49, VREF5/179N/HSI9 (io), H26 BK5_IO48/179P/HSI9 (io), H27 BK5_IO40/175P/HSI9 (io), H28 BK5_IO41/175N/HSI9 (io), H29 BK5_IO35, HSI8B_SINN/172N/HSI8 (io), H30 BK5_IO34, HSI8B_SINP/172P/HSI8 (io), J24 BK5_IO37/173N/HSI9 (io), J25 BK5_IO36/173P/HSI9 (io), J26 BK5_IO32/171P/HSI8 (io), J27 BK5_IO33/171N/HSI8 (io), J29 BK5_IO31, HSI8A_SOUTN/170N/HSI8 (io), J30 BK5_IO30, HSI8A_SOUTP/170P/HSI8 (io), K26 BK5_IO29/169N/HSI8 (io), K27 BK5_IO28/169P/HSI8 (io), K29 BK5_IO23, HSI7B_SOUTN/166N/HSI8 (io), K30 BK5_IO22, HSI7B_SOUTP/166P/HSI8 (io), L25 BK5_IO27, HSI8A_SINN/168N/HSI8 (io), L26 BK5_IO26, HSI8A_SINP/168P/HSI8 (io), L27 BK5_IO25/167N/HSI8 (io), L28 BK5_IO24/167P/HSI8 (io), L29 BK5_IO19, HSI7B_SINN/164N/HSI7 (io), L30 BK5_IO18, HSI7B_SINP/164P/HSI7 (io), M25 BK5_IO21/165N/HSI8 (io), M26 BK5_IO20/165P/HSI8 (io), M27 BK5_IO17/163N/HSI7 (io), M28 BK5_IO16/163P/HSI7 (io), M29 BK5_IO14, HSI7A_SOUTP/162P/HSI7 (io), M30 BK5_IO15, HSI7A_SOUTN/162N/HSI7 (io), N24 BK5_IO13/161N/HSI7 (io), N25 BK5_IO12/161P/HSI7 (io), N27 BK5_IO8/159P/HSI7 (io), N28 BK5_IO9/159N/HSI7 (io), N29 BK5_IO10, HSI7A_SINP/160P/HSI7 (io), N30 BK5_IO11, HSI7A_SINN/160N/HSI7 (io), P25 BK5_IO7, PLL_RST7/158N/HSI7 (io), P26 BK5_IO6, PLL_RST6/158P/HSI7 (io), P27 BK5_IO4/157P/HSI7 (io), P28 BK5_IO5/157N/HSI7 (io), P29 BK5_IO3, PLL_FBK7/156N (io), P30 BK5_IO2, PLL_FBK6/156P (io), R29 BK5_IO0, CLK_OUT6/155P (io), R30 BK5_IO1, CLK_OUT7/155N (io), T29 BK4_IO61, CLK_OUT5/154N (io), T30 BK4_IO60, CLK_OUT4/154P (io), U25 BK4_IO52/150P (io), U26 BK4_IO53/150N (io), U27 BK4_IO57, PLL_FBK5/152N (io), U28 BK4_IO56, PLL_FBK4/152P (io), U29 BK4_IO58, SS_CLKOUT1P/153P (io), U30 BK4_IO59, SS_CLKOUT1N/153N (io), V24 BK4_IO44/146P (io), V25 BK4_IO45/146N (io), V27 BK4_IO48, PLL_RST4/148P (io), V28 BK4_IO49, PLL_RST5/148N (io), V29 BK4_IO54, SS_CLKIN1P/151P (io), V30 BK4_IO55, SS_CLKIN1N/151N (io), W25 BK4_IO40/144P/HSI6 (io), W26 BK4_IO41/144N/HSI6 (io), W27 BK4_IO42/145P (io), W28 BK4_IO43/145N (io), W29 BK4_IO50/149P (io), W30 BK4_IO51/149N (io), Y25 BK4_IO36/142P/HSI6 (io), Y26 BK4_IO37/142N/HSI6 (io), Y27 BK4_IO39/143N/HSI6 (io), Y28 BK4_IO38/143P/HSI6 (io), Y29 BK4_IO46/147P (io), Y30 BK4_IO47/147N (io)
part D pins: A4 BK7_IO61/247N (io), A5 BK7_IO54/244P (io), A6 BK7_IO46/240P (io), A7 BK7_IO42/238P (io), A8 BK7_IO38/236P (io), A9 BK7_IO34/234P (io), A10 BK7_IO31/232N (io), A11 BK7_IO22/228P (io), A12 BK7_IO18/226P (io), A13 BK7_IO15/224N (io), A14 BK7_IO6/220P (io), A15 BK7_IO0/217P (io), A16 BK6_IO61/216N (io), A17 BK6_IO55, DATA0/213N (io), A18 BK6_IO46/209P (io), A19 BK6_IO42/207P (io), A20 BK6_IO39/205N (io), A21 BK6_IO30/201P (io), A22 BK6_IO27/199N (io), A23 BK6_IO18/195P (io), A24 BK6_IO14/193P (io), A25 BK6_IO10/191P (io), A26 BK6_IO7/189N (io), A27 BK6_IO3/187N (io), B4 BK7_IO60/247P (io), B5 BK7_IO55/244N (io), B6 BK7_IO47, VREF7/240N (io), B7 BK7_IO43/238N (io), B8 BK7_IO39/236N (io), B9 BK7_IO35/234N (io), B10 BK7_IO30/232P (io), B11 BK7_IO23/228N (io), B12 BK7_IO19/226N (io), B13 BK7_IO14/224P (io), B14 BK7_IO7/220N (io), B15 BK7_IO1/217N (io), B16 BK6_IO60/216P (io), B17 BK6_IO54, DATA1/213P (io), B18 BK6_IO47/209N (io), B19 BK6_IO43/207N (io), B20 BK6_IO38/205P (io), B21 BK6_IO31/201N (io), B22 BK6_IO26/199P (io), B23 BK6_IO19/195N (io), B24 BK6_IO15/193N (io), B25 BK6_IO11/191N (io), B26 BK6_IO6/189P (io), B27 BK6_IO2/187P (io), C5 BK7_IO59/246N (io), C6 BK7_IO56/245P (io), C7 BK7_IO50/242P (io), C8 BK7_IO44/239P (io), C11 BK7_IO26/230P (io), C12 BK7_IO20/227P (io), C13 BK7_IO12/223P (io), C14 BK7_IO8/221P (io), C15 BK7_IO2/218P (io), C16 BK6_IO59/215N (io), C17 BK6_IO53/212N (io), C18 BK6_IO49/210N (io), C19 BK6_IO41/206N (io), C20 BK6_IO35/203N (io), C23 BK6_IO20/196P (io), C24 BK6_IO13/192N (io), C25 BK6_IO5, Read/188N (io), C26 BK6_IO1, CCLK/186N (io), D5 BK7_IO58/246P (io), D6 BK7_IO57/245N (io), D7 BK7_IO51/242N (io), D8 BK7_IO45/239N (io), D9 BK7_IO40/237P (io), D10 BK7_IO32/233P (io), D11 BK7_IO27/230N (io), D12 BK7_IO21/227N (io), D13 BK7_IO13/223N (io), D14 BK7_IO9/221N (io), D15 BK7_IO3/218N (io), D16 BK6_IO58/215P (io), D17 BK6_IO52/212P (io), D18 BK6_IO48/210P (io), D19 BK6_IO40/206P (io), D20 BK6_IO34/203P (io), D21 BK6_IO29/200N (io), D22 BK6_IO23/197N (io), D23 BK6_IO21/196N (io), D24 BK6_IO12, VREF6/192P (io), D25 BK6_IO4, CSb/188P (io), D26 BK6_IO0, INITb/186P (io), E7 BK7_IO52/243P (io), E8 BK7_IO48/241P (io), E9 BK7_IO41/237N (io), E10 BK7_IO33/233N (io), E11 BK7_IO28/231P (io), E12 BK7_IO24/229P (io), E14 BK7_IO10/222P (io), E15 BK7_IO4/219P (io), E16 BK6_IO57/214N (io), E17 BK6_IO51, DATA2/211N (io), E19 BK6_IO37, DATA4/204N (io), E20 BK6_IO33, DATA6/202N (io), E21 BK6_IO28/200P (io), E22 BK6_IO22/197P (io), E23 BK6_IO17/194N (io), E24 BK6_IO9/190N (io), F7 BK7_IO53/243N (io), F8 BK7_IO49/241N (io), F10 BK7_IO36/235P (io), F11 BK7_IO29/231N (io), F12 BK7_IO25/229N (io), F13 BK7_IO16/225P (io), F14 BK7_IO11/222N (io), F15 BK7_IO5/219N (io), F16 BK6_IO56/214P (io), F17 BK6_IO50, DATA3/211P (io), F18 BK6_IO45/208N (io), F19 BK6_IO36, DATA5/204P (io), F20 BK6_IO32, DATA7/202P (io), F21 BK6_IO25/198N (io), F23 BK6_IO16/194P (io), F24 BK6_IO8/190P (io), G10 BK7_IO37/235N (io), G13 BK7_IO17/225N (io), G18 BK6_IO44/208P (io), G21 BK6_IO24/198P (io)
part E pins: A3 TDO (out), A28 PROGRAMb (in), AH4 TCK (in), AH27 DXN (out), AJ3 TMS (in), AJ28 DXP (out), AK3 TOE (in), AK28 GSR (in), B28 DONE (io), C4 TDI (in), C27 CFG0 (in), R3 GCLK0/LVDS Pair0P (in), R4 GCLK1/LVDS Pair0N (in), R26 GCLK7/LVDS Pair3N (in), R27 GCLK6/LVDS Pair3P (in), T4 GCLK2/LVDS Pair1P (in), T5 GCLK3/LVDS Pair1N (in), T27 GCLK5/LVDS Pair2N (in), T28 GCLK4/LVDS Pair2P (in)
part F pins: A1 GND (power), A2 GND (power), A29 GND (power), A30 GND (power), AA3 VCCO1 (power), AA11 VCCO2 (power), AA20 VCCO3 (power), AA28 VCCO4 (power), AB3 GND (power), AB28 GND (power), AF13 VCCO2 (power), AF18 VCCO3 (power), AG4 GND (power), AG27 GND (power), AH3 GND (power), AH9 GND (power), AH10 VCCO2 (power), AH21 VCCO3 (power), AH22 GND (power), AH28 GND (power), AJ1 GND (power), AJ2 GND (power), AJ29 GND (power), AJ30 GND (power), AK1 GND (power), AK2 GND (power), AK29 GND (power), AK30 GND (power), B1 GND (power), B2 GND (power), B3 VCCJ (power), B29 GND (power), B30 GND (power), C3 GND (power), C9 GND (power), C10 VCCO7 (power), C21 VCCO6 (power), C22 GND (power), C28 GND (power), D4 GND (power), D27 GND (power), E13 VCCO7 (power), E18 VCCO6 (power), J3 GND (power), J28 GND (power), K3 VCCO0 (power), K11 VCCO7 (power), K20 VCCO6 (power), K28 VCCO5 (power), L10 VCCO0 (power), L11 VCC (power), L12 VCCO7 (power), L13 VCCO7 (power), L14 VCCO7 (power), L15 VCCO7 (power), L16 VCCO6 (power), L17 VCCO6 (power), L18 VCCO6 (power), L19 VCCO6 (power), L20 VCC (power), L21 VCCO5 (power), M11 VCCO0 (power), M12 VCC (power), M13 VCC (power), M14 VCC (power), M15 VCCO7 (power), M16 VCCO6 (power), M17 VCC (power), M18 VCC (power), M19 VCC (power), M20 VCCO5 (power), N5 VCCO0 (power), N11 VCCO0 (power), N12 VCC (power), N13 GND (power), N14 GND (power), N15 GND (power), N16 GND (power), N17 GND (power), N18 GND (power), N19 VCC (power), N20 VCCO5 (power), N26 VCCO5 (power), P11 VCCO0 (power), P12 VCC (power), P13 GND (power), P14 GND (power), P15 GND (power), P16 GND (power), P17 GND (power), P18 GND (power), P19 VCC (power), P20 VCCO5 (power), R5 VCCP0 (power), R11 VCCO0 (power), R12 VCCO0 (power), R13 GND (power), R14 GND (power), R15 GND (power), R16 GND (power), R17 GND (power), R18 GND (power), R19 VCCO5 (power), R20 VCCO5 (power), R28 GNDP1 (power), T3 GNDP0 (power), T11 VCCO1 (power), T12 VCCO1 (power), T13 GND (power), T14 GND (power), T15 GND (power), T16 GND (power), T17 GND (power), T18 GND (power), T19 VCCO4 (power), T20 VCCO4 (power), T26 VCCP1 (power), U11 VCCO1 (power), U12 VCC (power), U13 GND (power), U14 GND (power), U15 GND (power), U16 GND (power), U17 GND (power), U18 GND (power), U19 VCC (power), U20 VCCO4 (power), V5 VCCO1 (power), V11 VCCO1 (power), V12 VCC (power), V13 GND (power), V14 GND (power), V15 GND (power), V16 GND (power), V17 GND (power), V18 GND (power), V19 VCC (power), V20 VCCO4 (power), V26 VCCO4 (power), W11 VCCO1 (power), W12 VCC (power), W13 VCC (power), W14 VCC (power), W15 VCCO2 (power), W16 VCCO3 (power), W17 VCC (power), W18 VCC (power), W19 VCC (power), W20 VCCO4 (power), Y10 VCCO1 (power), Y11 VCC (power), Y12 VCCO2 (power), Y13 VCCO2 (power), Y14 VCCO2 (power), Y15 VCCO2 (power), Y16 VCCO3 (power), Y17 VCCO3 (power), Y18 VCCO3 (power), Y19 VCCO3 (power), Y20 VCC (power), Y21 VCCO4 (power)
part G pins: AA6 NC, AA7 NC, AA8 NC, AA9 NC, AA10 NC, AA12 NC, AA13 NC, AA14 NC, AA15 NC, AA16 NC, AA17 NC, AA18 NC, AA19 NC, AA21 NC, AA22 NC, AA23 NC, AA24 NC, AA25 NC, AB8 NC, AB9 NC, AB10 NC, AB11 NC, AB12 NC, AB13 NC, AB14 NC, AB15 NC, AB16 NC, AB17 NC, AB18 NC, AB19 NC, AB20 NC, AB21 NC, AB22 NC, AB23 NC, AC7 NC, AC8 NC, AC9 NC, AC10 NC, AC11 NC, AC12 NC, AC13 NC, AC14 NC, AC15 NC, AC16 NC, AC17 NC, AC18 NC, AC19 NC, AC20 NC, AC21 NC, AC22 NC, AC23 NC, AC24 NC, AD7 NC, AD8 NC, AD9 NC, AD11 NC, AD12 NC, AD14 NC, AD15 NC, AD16 NC, AD17 NC, AD19 NC, AD20 NC, AD22 NC, AD23 NC, AD24 NC, AE6 NC, AE9 NC, AE22 NC, AE25 NC, AF5 NC, AF6 NC, AF25 NC, AF26 NC, E5 NC, E6 NC, E25 NC, E26 NC, F6 NC, F9 NC, F22 NC, F25 NC, G7 NC, G8 NC, G9 NC, G11 NC, G12 NC, G14 NC, G15 NC, G16 NC, G17 NC, G19 NC, G20 NC, G22 NC, G23 NC, G24 NC, H5 NC, H6 NC, H7 NC, H8 NC, H9 NC, H10 NC, H11 NC, H12 NC, H13 NC, H14 NC, H15 NC, H16 NC, H17 NC, H18 NC, H19 NC, H20 NC, H21 NC, H22 NC, H23 NC, H24 NC, J8 NC, J9 NC, J10 NC, J11 NC, J12 NC, J13 NC, J14 NC, J15 NC, J16 NC, J17 NC, J18 NC, J19 NC, J20 NC, J21 NC, J22 NC, J23 NC, K6 NC, K7 NC, K8 NC, K9 NC, K10 NC, K12 NC, K13 NC, K14 NC, K15 NC, K16 NC, K17 NC, K18 NC, K19 NC, K21 NC, K22 NC, K23 NC, K24 NC, K25 NC, L7 NC, L8 NC, L9 NC, L22 NC, L23 NC, L24 NC, M7 NC, M8 NC, M9 NC, M10 NC, M21 NC, M22 NC, M23 NC, M24 NC, N8 NC, N9 NC, N10 NC, N21 NC, N22 NC, N23 NC, P7 NC, P8 NC, P9 NC, P10 NC, P21 NC, P22 NC, P23 NC, P24 NC, R8 NC, R9 NC, R10 NC, R21 NC, R22 NC, R23 NC, R24 NC, R25 NC, T6 NC, T7 NC, T8 NC, T9 NC, T10 NC, T21 NC, T22 NC, T23 NC, T24 NC, T25 NC, U7 NC, U8 NC, U9 NC, U10 NC, U21 NC, U22 NC, U23 NC, U24 NC, V8 NC, V9 NC, V10 NC, V21 NC, V22 NC, V23 NC, W7 NC, W8 NC, W9 NC, W10 NC, W21 NC, W22 NC, W23 NC, W24 NC, Y7 NC, Y8 NC, Y9 NC, Y22 NC, Y23 NC, Y24 NC
part A text: BANK 1; BANK 0
part B text: BANK 3; BANK 2
part C text: BANK 5; BANK 4
part D text: BANK 7; BANK 6

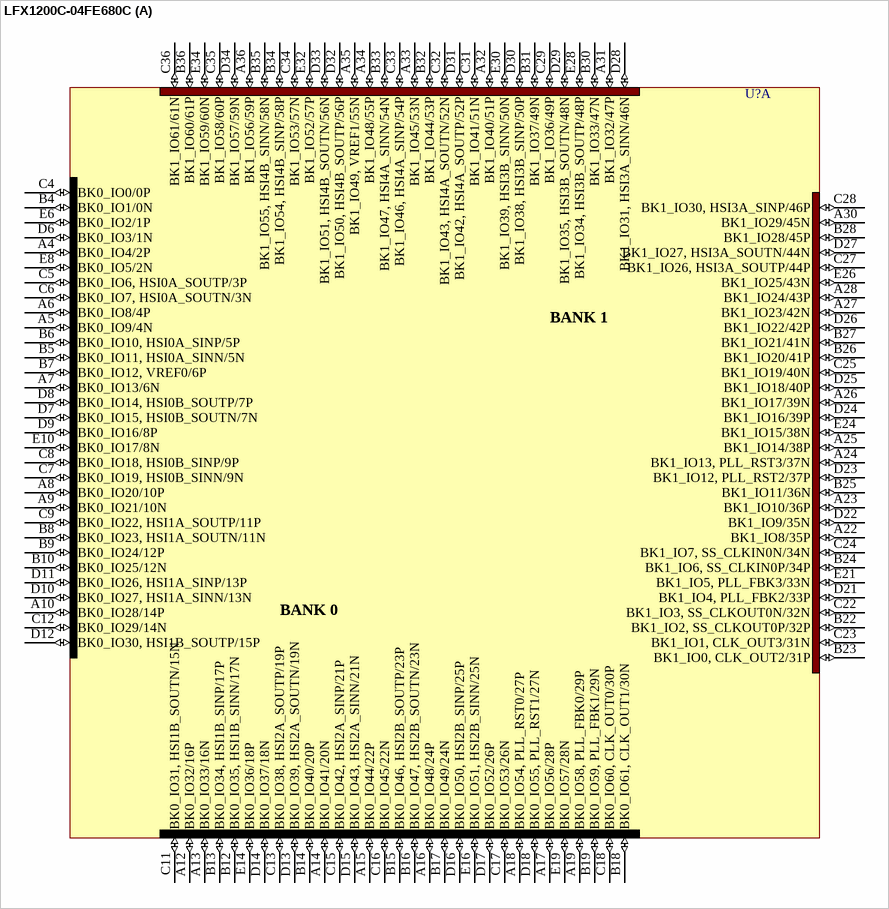
[diagram p333: symbol LFX1200C-04FE680C]

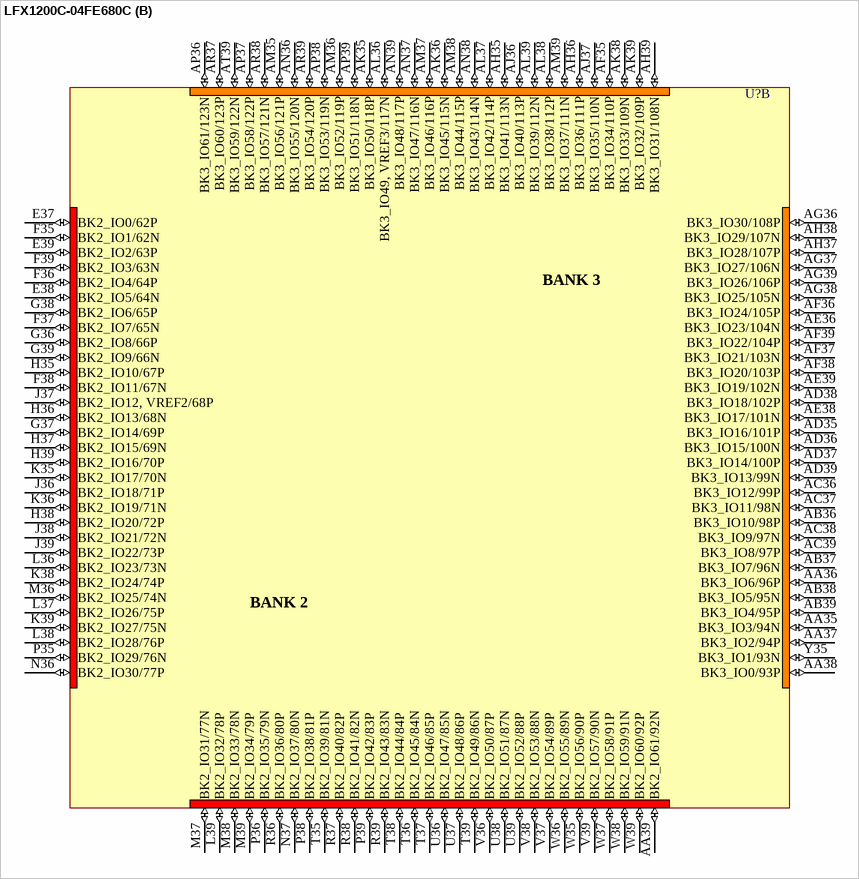
[diagram p334: symbol LFX1200C-04FE680C]

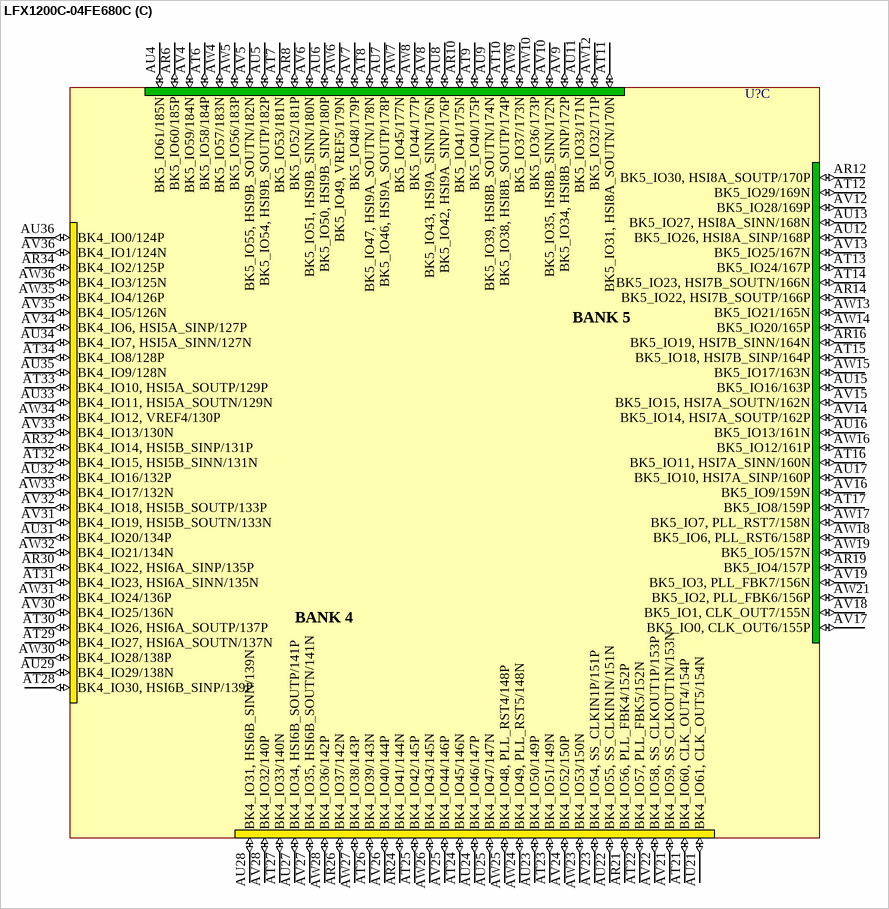
[diagram p335: symbol LFX1200C-04FE680C]

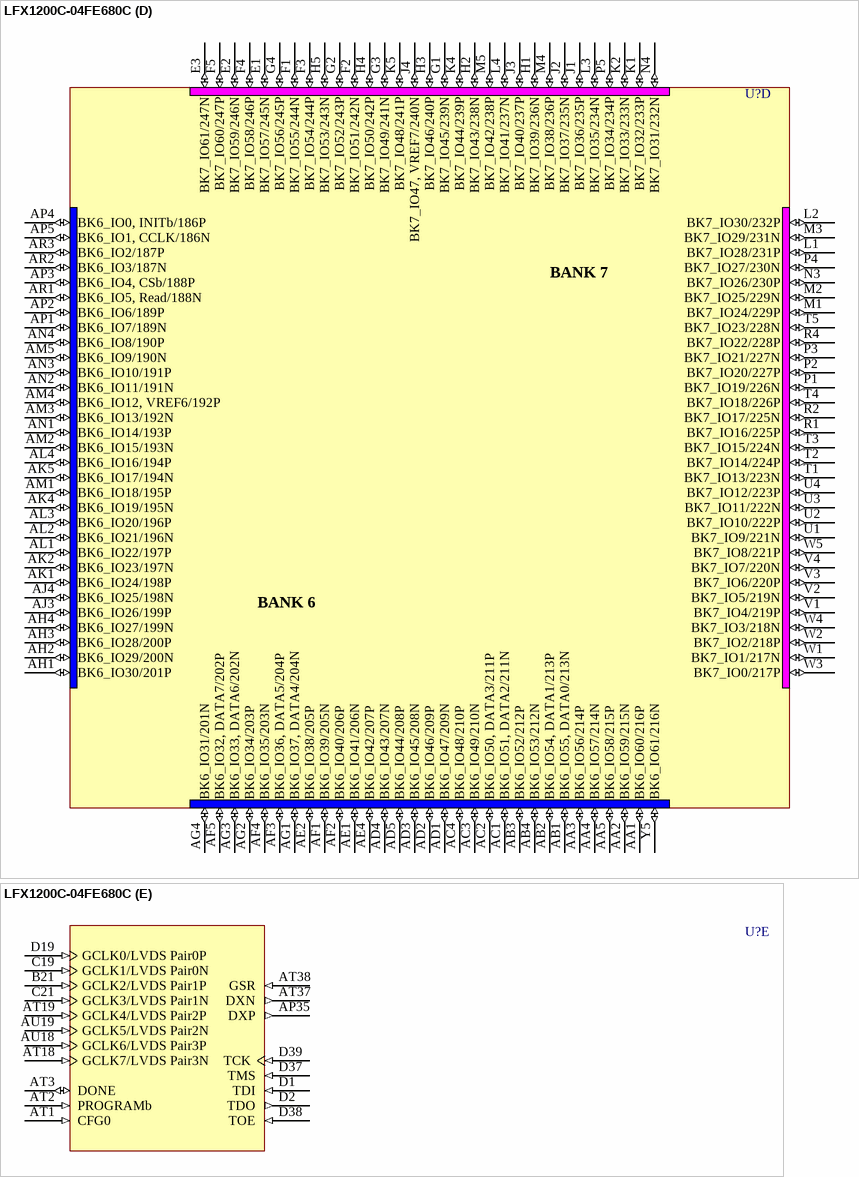
[diagram p336: symbol LFX1200C-04FE680C]

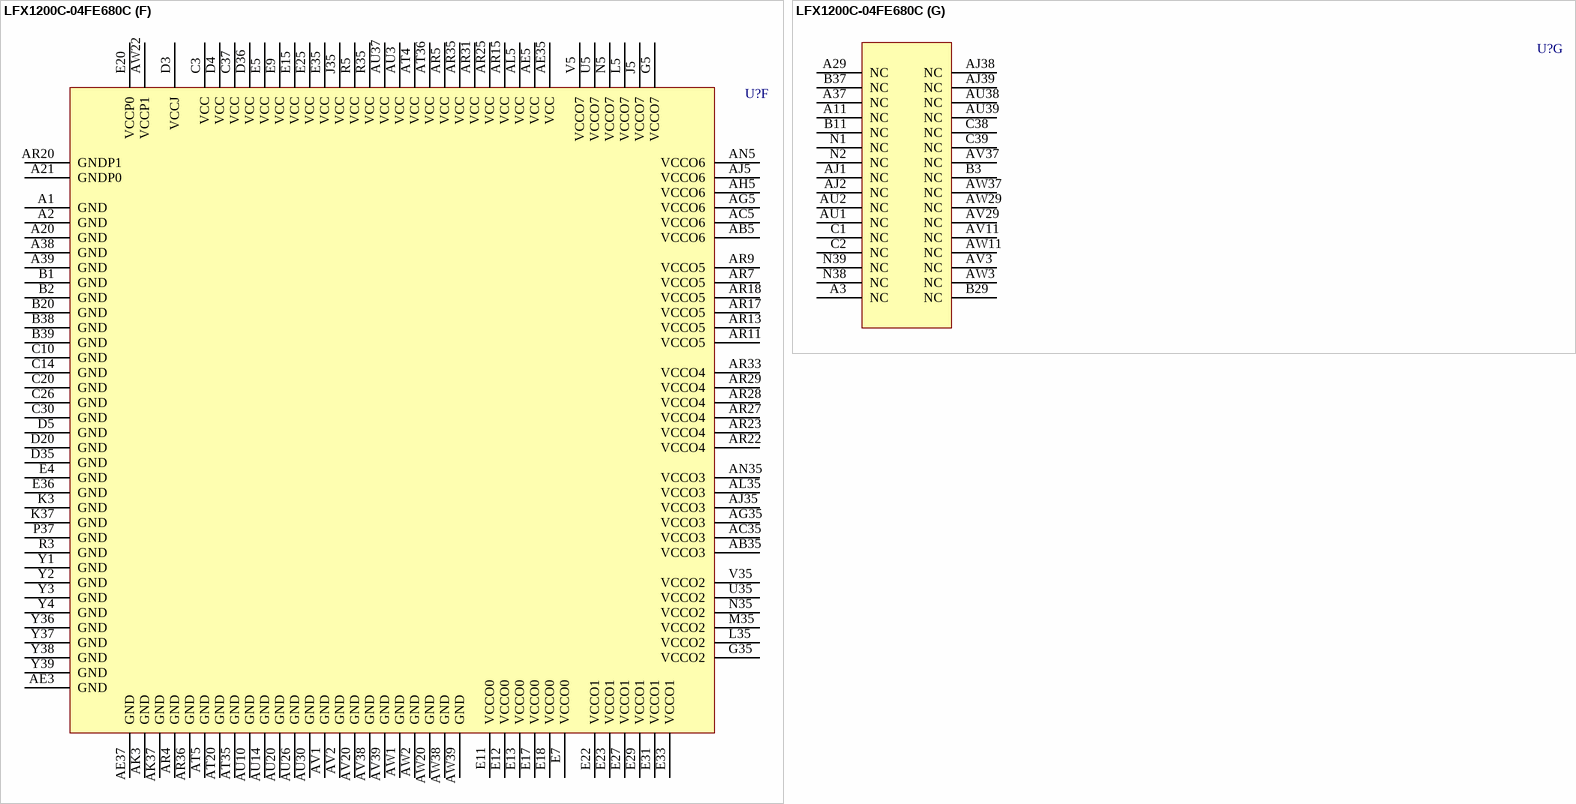
[diagram p337: symbol LFX1200C-04FE680C]